# Altium schematic symbol library KC2520K24P5760C1GE00.SchLib: 1 symbol
Pins are listed as number, name and electrical type; pins without a type are passive.

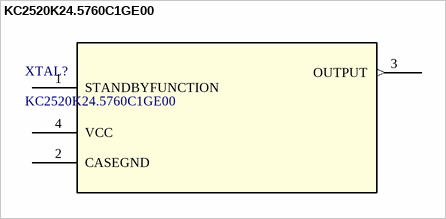
[diagram p0: symbol KC2520K24.5760C1GE00]

## KC2520K24.5760C1GE00
designator XTAL?
No Description Available; Manufacturer_Name: KYOCERA AVX; Copyright: Copyright (C) 2026 Ultra Librarian. All rights reserved.; Manufacturer_Part_Number: KC2520K24.5760C1GE00; RefDes: RefDes; Type: Type
footprint SMD4_KC2520K_2p15X2p65_KAV
pins: 1 STANDBYFUNCTION, 2 CASEGND (power), 3 OUTPUT (out), 4 VCC (power)